# Altium footprint library diode.PCBLIB: 206 footprints (part 5 of 13)
Each footprint in its own frame and in the unit in brackets; x right, y up, seen from the top. Pads: shape width x height; smd on the part's side, far side on the other; paste and mask are expansions set on the pad; w line width, h text height; cw(c..) or ccw(c..) is an arc to the next point about the centre after c.
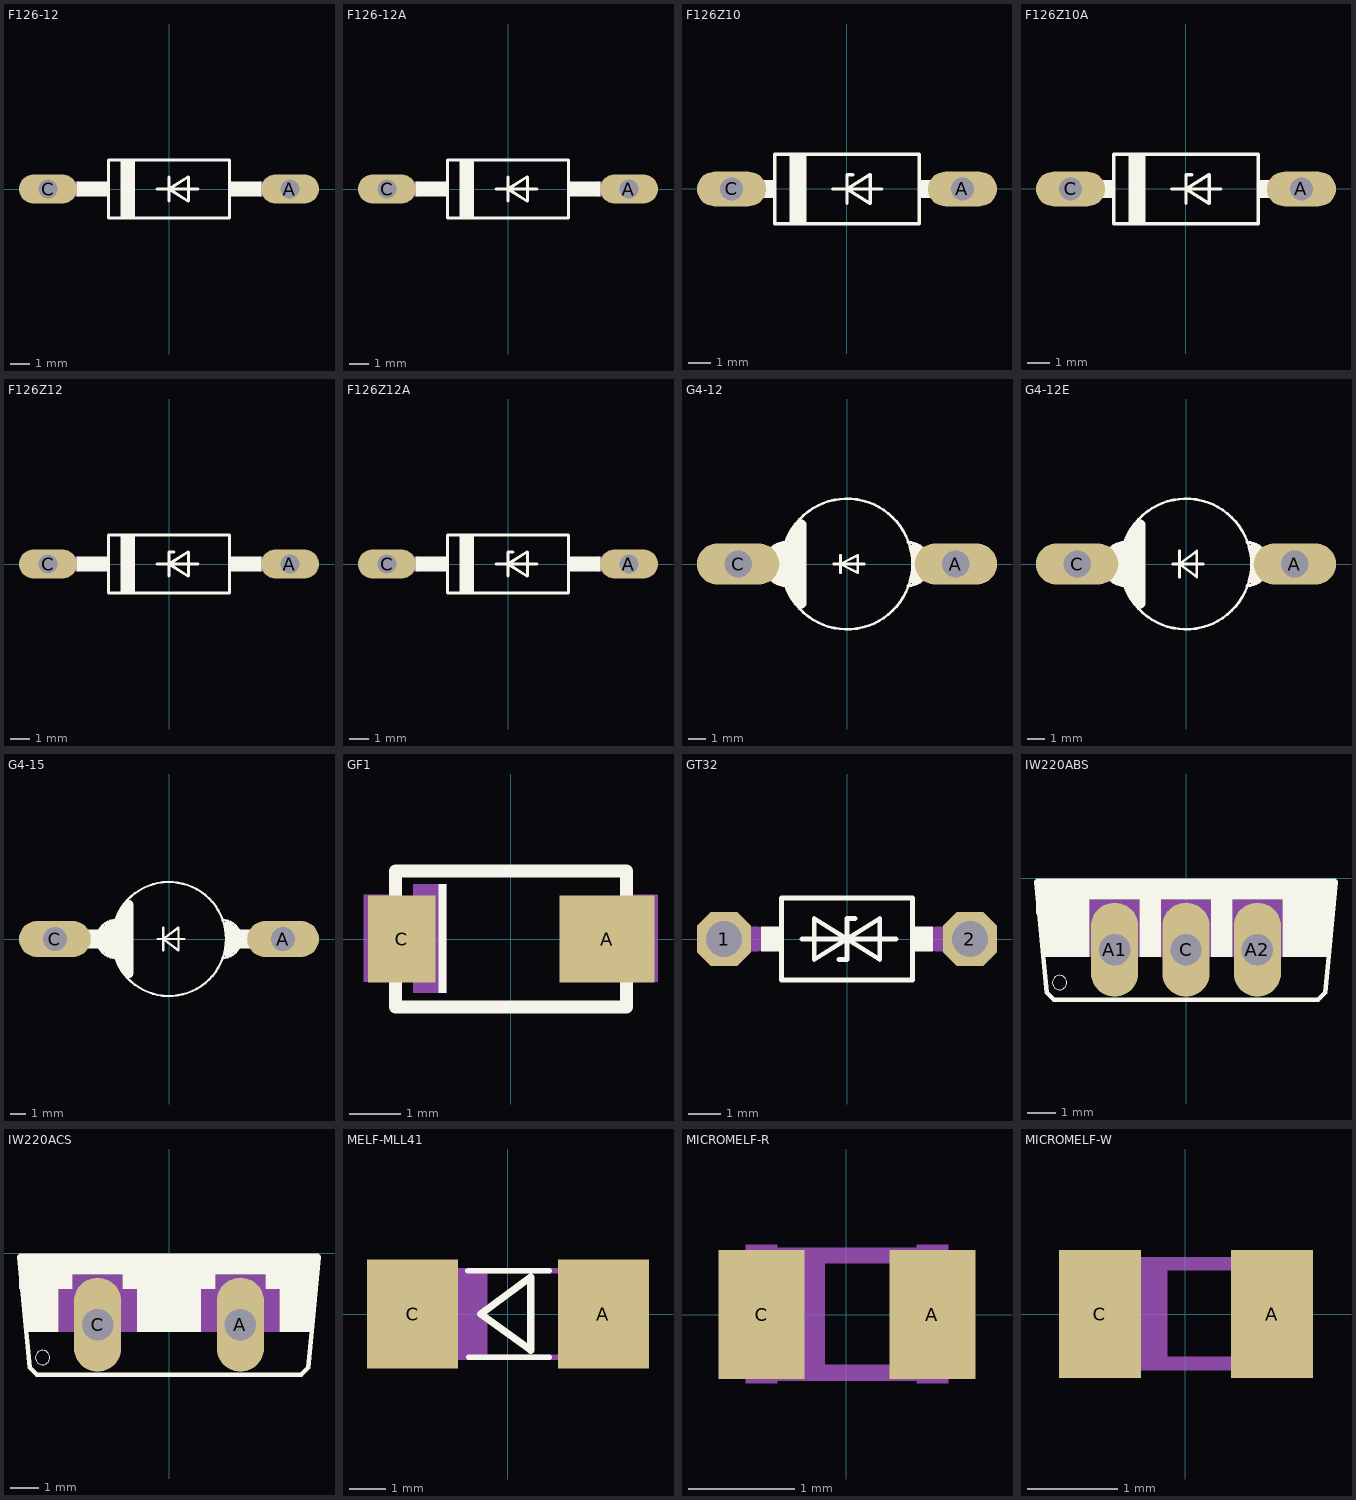
[diagram p4: the footprints below, top view; thin cyan lines are the x and y axes]

## F126-12 [mil]
pads (2):
  oval 120x60 hole 40: A(250,0) C(-250,0)
Top Overlay:
  rectangle: -100,-60 -70,60
  rectangle: -191,-16 -125,16
  rectangle: 125,-16 191,16
  lines w6: -25,0 0,0 ; 0,-25 0,0 ; 0,25 0,0 ; 60,0 0,0 ; 0,0 40,-25 40,25 0,0 ; -125,-60 125,-60 125,60 -125,60 -125,-60
Mechanical 16:
  lines w32: -250,0 -190,0 ; 190,0 250,0

## F126-12A [mil]
pads (2):
  oval 120x60 hole 40: A(250,0) C(-250,0)
Top Overlay:
  rectangle: -100,-60 -70,60
  rectangle: -191,-16 -125,16
  rectangle: 125,-16 191,16
  lines w6: -25,0 0,0 ; 0,-25 0,0 ; 0,25 0,0 ; 60,0 0,0 ; 0,0 40,-25 40,25 0,0 ; -125,-60 125,-60 125,60 -125,60 -125,-60
Mechanical 16:
  lines w32: -250,0 -190,0 ; 190,0 250,0

## F126Z10 [mil]
pads (2):
  oval 120x60 hole 40: A(200,0) C(-200,0)
Top Overlay:
  rectangle: -100,-60 -70,60
  rectangle: 125,-16 147,16
  rectangle: -147,-16 -125,16
  lines w6: -25,0 0,0 ; 0,-25 0,0 ; 10,25 0,25 0,0 ; 60,0 0,0 ; 0,0 40,-25 40,25 0,0 ; -125,-60 125,-60 125,60 -125,60 -125,-60
Mechanical 16:
  lines w32: -200,0 -150,0 ; 150,0 200,0

## F126Z10A [mil]
pads (2):
  oval 120x60 hole 40: A(200,0) C(-200,0)
Top Overlay:
  rectangle: -100,-60 -70,60
  rectangle: 125,-16 147,16
  rectangle: -147,-16 -125,16
  lines w6: -25,0 0,0 ; 0,-25 0,0 ; 10,25 0,25 0,0 ; 60,0 0,0 ; 0,0 40,-25 40,25 0,0 ; -125,-60 125,-60 125,60 -125,60 -125,-60
Mechanical 16:
  lines w32: -200,0 -150,0 ; 150,0 200,0

## F126Z12 [mil]
pads (2):
  oval 120x60 hole 40: A(250,0) C(-250,0)
Top Overlay:
  rectangle: -100,-60 -70,60
  rectangle: -191,-16 -125,16
  rectangle: 125,-16 191,16
  lines w6: -25,0 0,0 ; 0,-25 0,0 ; 10,25 0,25 0,0 ; 60,0 0,0 ; 0,0 40,-25 40,25 0,0 ; -125,-60 125,-60 125,60 -125,60 -125,-60
Mechanical 16:
  lines w32: -250,0 -190,0 ; 190,0 250,0

## F126Z12A [mil]
pads (2):
  oval 120x60 hole 40: A(250,0) C(-250,0)
Top Overlay:
  rectangle: -100,-60 -70,60
  rectangle: -191,-16 -125,16
  rectangle: 125,-16 191,16
  lines w6: -25,0 0,0 ; 0,-25 0,0 ; 10,25 0,25 0,0 ; 60,0 0,0 ; 0,0 40,-25 40,25 0,0 ; -125,-60 125,-60 125,60 -125,60 -125,-60
Mechanical 16:
  lines w32: -250,0 -190,0 ; 190,0 250,0

## G4-12 [mil]
pads (2):
  oval 189x94.5 hole 63: A(250,0) C(-250,0)
Top Overlay:
  circle w6: c0,0 r150
  rectangle: 150,-25 195,25
  rectangle: -195,-25 -150,25
  lines w6: -140,-50 cw(c-140,0) -140,50 ; -30,0 -15,0 ; -15,-20 -15,0 ; -15,20 -15,0 ; 40,0 -15,0 ; 140,-50 ccw(c140,0) 140,50 ; -15,0 25,-20 25,20 -15,0
  lines w24: -170,-20 -155,-35 ; -170,20 -155,35 ; -140,-40 -140,40 ; -115,-80 -125,-60 -125,60 -115,80 ; -105,-90 -105,90 ; 155,-35 170,-20 ; 155,35 170,20
Mechanical 16:
  lines w50: -250,0 -200,0 ; 200,0 250,0

## G4-12E [mil]
pads (2):
  oval 189x94.5 hole 63: A(250,0) C(-250,0)
Top Overlay:
  circle w6: c0,0 r150
  rectangle: 150,-25 195,25
  rectangle: -195,-25 -150,25
  lines w6: -140,-50 cw(c-140,0) -140,50 ; -30,0 -15,0 ; -15,-30 -15,0 ; -15,30 -15,0 ; 40,0 -15,0 ; 140,-50 ccw(c140,0) 140,50 ; -15,0 25,-30 25,30 -15,0
  lines w24: -170,-20 -155,-35 ; -170,20 -155,35 ; -140,-40 -140,40 ; -115,-80 -125,-60 -125,60 -115,80 ; -105,-90 -105,90 ; 155,-35 170,-20 ; 155,35 170,20
Mechanical 16:
  lines w50: -250,0 -200,0 ; 200,0 250,0

## G4-15 [mil]
pads (2):
  oval 189x94.5 hole 63: A(300,0) C(-300,0)
Top Overlay:
  circle w6: c0,0 r150
  rectangle: 150,-25 230,25
  rectangle: -230,-25 -150,25
  lines w6: -140,-50 cw(c-140,0) -140,50 ; -30,0 -15,0 ; -15,-30 -15,0 ; -15,30 -15,0 ; 40,0 -15,0 ; 140,-50 ccw(c140,0) 140,50 ; -15,0 25,-30 25,30 -15,0
  lines w24: -170,-20 -155,-35 ; -170,20 -155,35 ; -140,-40 -140,40 ; -115,-80 -125,-60 -125,60 -115,80 ; -105,-90 -105,90 ; 155,-35 170,-20 ; 155,35 170,20
Mechanical 16:
  lines w50: -300,0 -225,0 ; 225,0 300,0

## GF1 [mil]
pads (2):
  rect 73x67 smd: A(74,0)
  rect 52x67 smd: C(-83.46,0)
Top Overlay:
  rectangle: -55.12,-41.34 -49.21,42
  lines w10: -88.19,-51.97 89,-51.97 89,52 -88.19,52 -88.19,-51.97
Mechanical 16:
  rectangle: -112.6,-33.07 -91.34,34
  rectangle: 93,-33.07 113,34
  rectangle: -74.8,-41.34 -49.21,42

## GT32 [mil]
pads (2):
  oct 66x66 hole 44: 1(-150,0) 2(150,0)
Top Overlay:
  rectangle: 80,-15 105,15
  rectangle: -105,-15 -80,15
  lines w6: -55,0 0,0 ; -10,-25 0,-25 0,0 ; 10,25 0,25 0,0 ; 60,0 0,0 ; 0,0 40,-25 40,25 0,0 ; 0,0 -40,25 -40,-25 0,0 ; -80,-50 80,-50 80,50 -80,50 -80,-50
Mechanical 16:
  lines w30: -150,0 -110,0 ; 110,0 150,0

## IW220ABS [mil]
pads (3):
  oval 66x132 hole 44: A1(-100,-100) A2(100,-100) C(0,-100)
Top Overlay:
  circle w0: c-177,-146 r10
  rectangle: -210,-30 210,0
  rectangle: -210,-50 -135,-30
  rectangle: 135,-50 205,-30
  rectangle: 200,-75 205,-50
  rectangle: -205,-75 -200,-50
  rectangle: 135,-110 200,-50
  rectangle: 35,-110 65,-30
  rectangle: -65,-110 -35,-30
  rectangle: -200,-110 -135,-50
  lines w6: -210,-5 -195,-160 -185,-170 185,-170 195,-160 210,-5
Mechanical 16:
  rectangle: 65,-110 135,-30
  rectangle: -35,-110 35,-30
  rectangle: -135,-110 -65,-30

## IW220ACS [mil]
pads (2):
  oval 66x132 hole 44: A(100,-100) C(-100,-100)
Top Overlay:
  circle w0: c-177,-146 r10
  rectangle: -210,-30 210,0
  rectangle: -210,-50 -135,-30
  rectangle: -65,-50 65,-30
  rectangle: 155,-110 200,-50
  rectangle: 135,-50 205,-30
  rectangle: 200,-75 205,-50
  rectangle: -45,-110 45,-50
  rectangle: -200,-110 -155,-50
  rectangle: -205,-75 -200,-50
  lines w6: -210,-5 -195,-160 -185,-170 185,-170 195,-160 210,-5
Mechanical 16:
  rectangle: -135,-50 -65,-30
  rectangle: 65,-50 135,-30
  rectangle: 45,-110 155,-50
  rectangle: -155,-110 -45,-50

## MELF-MLL41 [mil]
pads (2):
  rect 99x119 smd: A(104,0) C(-103.35,0)
Top Overlay:
  lines w6: -43.19,47 45,47 ; -42.19,-47 45,-47
  lines w8: -29.37,0 25,40 25,-39.37 -29.37,0
Mechanical 16:
  rectangle: 81,-50 101,50
  rectangle: -103,-50 -83,50
  rectangle: -57,-47 -22,47
  lines w6: -85,47 82,47 ; -84,-47 82,-47

## MICROMELF-R [mil]
pads (2):
  rect 32x48 smd: A(32,0) C(-31.5,0)
Mechanical 16:
  rectangle: -37.4,-25.59 -25.59,26
  rectangle: 26,-25.59 38,26
  rectangle: -19.68,-21.65 -7.87,22
  lines w6: -25.59,-21.65 26,-21.65 ; -25.59,22 26,22

## MICROMELF-W [mil]
pads (2):
  rect 36x56 smd: A(38,0) C(-37.4,0)
Mechanical 16:
  rectangle: -37.4,-25.59 -25.59,26
  rectangle: 26,-25.59 38,26
  rectangle: -19.68,-19.68 -7.87,22
  lines w6: -25.59,-21.65 26,-21.65 ; -25.59,22 26,22